# EAGLE library part CD4052BCM (library Fairchild_By_element14_Batch_1)
Single 8-Channel Analog Multiplexer/Demultiplexer
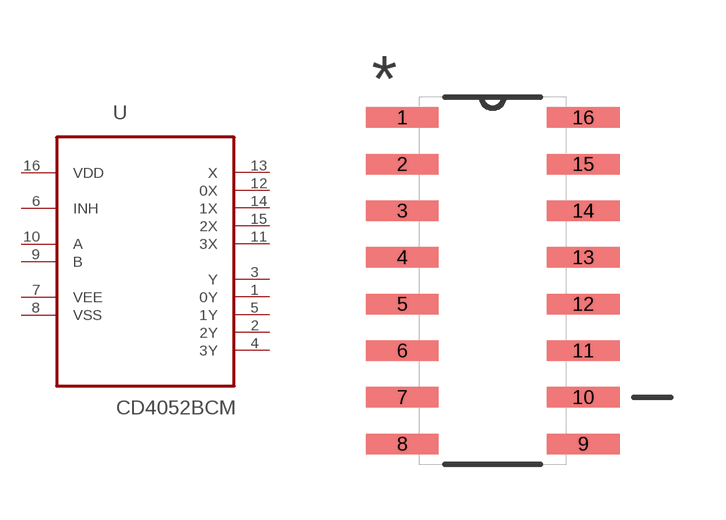
[diagram p163: symbol with the pads of SOIC127P600X175-16N; footprint SOIC127P600X175-16N]

Designator prefix U

## CD4052BCM (MPN: CD4052BCM; OC_FARNELL: 1014063; OC_NEWARK: 78K5873; PACKAGE: SOIC-16; SUPPLIER: Fairchild)  [SOIC127P600X175-16N]
1  0Y
2  2Y
3  Y
4  3Y
5  1Y
6  INH  pas
7  VEE  pas
8  VSS  pwr
9  B  in
10  A  in
11  3X
12  0X
13  X
14  1X
15  2X
16  VDD  pwr

## Footprint SOIC127P600X175-16N (pad centres in mm)
smd 1.981 x 0.559: 1 -2.464,4.445; 2 -2.464,3.175; 3 -2.464,1.905; 4 -2.464,0.635; 5 -2.464,-0.635; 6 -2.464,-1.905; 7 -2.464,-3.175; 8 -2.464,-4.445; 9 2.464,-4.445; 10 2.464,-3.175; 11 2.464,-1.905; 12 2.464,-0.635; 13 2.464,0.635; 14 2.464,1.905; 15 2.464,3.175; 16 2.464,4.445